# Altium schematic symbol library ChargerSchematic.SchLib: 1 symbol
Pins are listed as number, name and electrical type; pins without a type are passive.

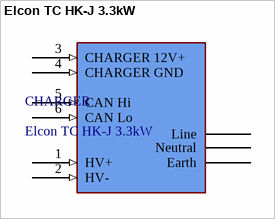
[diagram p0: symbol Elcon TC HK-J 3.3kW]

## Elcon TC HK-J 3.3kW
designator CHARGER
pins: 1 HV+ (in), 2 HV- (in), 3 CHARGER 12V+ (in), 4 CHARGER GND (in), 5 CAN Hi (in), 6 CAN Lo (in), 7 Line (power), 8 Neutral (power), 9 Earth